# Altium footprint library Tranceivers.PcbLib: 7 footprints
Each footprint in its own frame and in the unit in brackets; x right, y up, seen from the top. Pads: shape width x height; smd on the part's side, far side on the other; paste and mask are expansions set on the pad; w line width, h text height; cw(c..) or ccw(c..) is an arc to the next point about the centre after c.
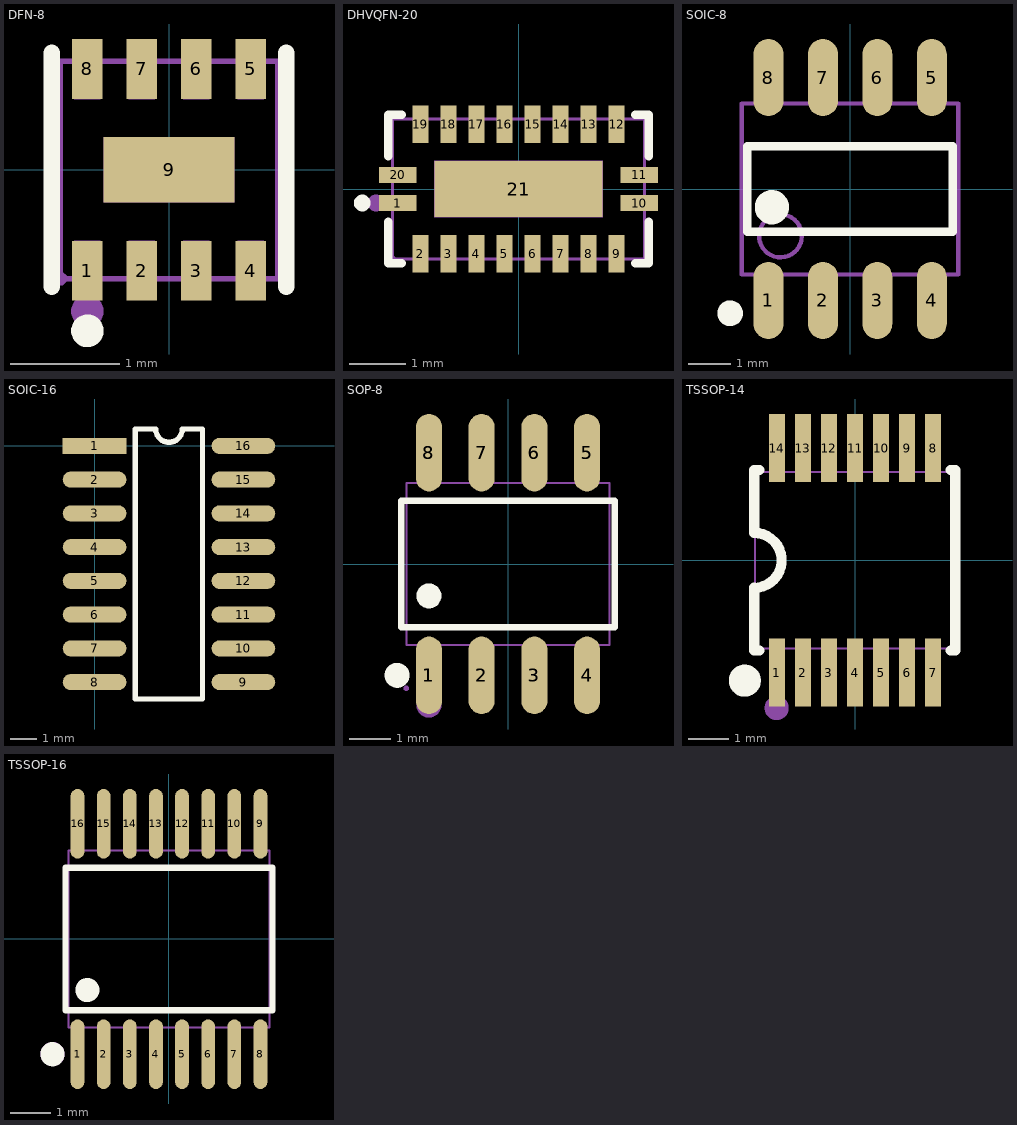
[diagram p0: the footprints below, top view; thin cyan lines are the x and y axes]

## DFN-8 [mm]
pads (9):
  rect 0.28x0.55 smd: 1(-0.75,-0.928) 2(-0.25,-0.928) 3(0.25,-0.928) 4(0.75,-0.928) 5(0.75,0.928) 6(0.25,0.928) 7(-0.25,0.928) 8(-0.75,0.928)
  rect 1.2x0.6 smd: 9(0,0)
Top Overlay:
  circle w0.15: c-0.75,-1.48 r0.075
  lines w0.152: -1.076,-1.076 -1.076,1.076 ; 1.076,-1.076 1.076,1.076
Mechanical 6:
  circle w0.15: c-0.75,-1.3 r0.075
Mechanical 15:
  region: -0.94,-1 -0.941,-0.976 -0.976,-0.941 -1.024,-0.941 -1.059,-0.976 -1.06,-1 -1.059,-1.024 -1.024,-1.059 -0.976,-1.059 -0.941,-1.024
  region: -0.6,0.3 0.6,0.3 0.6,-0.3 -0.6,-0.3
  region: -0.87,-0.65 -0.63,-0.65 -0.63,-1 -0.87,-1
  region: -0.37,-0.65 -0.13,-0.65 -0.13,-1 -0.37,-1
  region: 0.13,-0.65 0.37,-0.65 0.37,-1 0.13,-1
  region: 0.63,-0.65 0.87,-0.65 0.87,-1 0.63,-1
  region: 0.63,1 0.87,1 0.87,0.65 0.63,0.65
  region: 0.13,1 0.37,1 0.37,0.65 0.13,0.65
  region: -0.37,1 -0.13,1 -0.13,0.65 -0.37,0.65
  region: -0.87,1 -0.63,1 -0.63,0.65 -0.87,0.65
  lines w0.051: -1,-1 -1,1 1,1 1,-1 -1,-1
3D body "DFN8_2x2.STEP": height 0.75, standoff 0, extent -1,-1.005 1,1.005

## DHVQFN-20 [mm]
pads (21):
  rect 0.665x0.28 smd paste-100 mask+0.051: 1(-2.157,-0.25) 10(2.157,-0.25) 11(2.157,0.25) 20(-2.157,0.25)
  rect 0.28x0.665 smd paste-100 mask+0.051: 2(-1.75,-1.157) 3(-1.25,-1.157) 4(-0.75,-1.157) 5(-0.25,-1.157) 6(0.25,-1.157) 7(0.75,-1.157) 8(1.25,-1.157) 9(1.75,-1.157) 12(1.75,1.157) 13(1.25,1.157) 14(0.75,1.157) 15(0.25,1.157) 16(-0.25,1.157) 17(-0.75,1.157) 18(-1.25,1.157) 19(-1.75,1.157)
  rect 3x1 smd paste-100 mask+0.051: 21(0,0)
Top Overlay:
  circle w0.15: c-2.79,-0.25 r0.075
  lines w0.152: -2.326,-0.58 -2.326,-1.326 -2.08,-1.326 ; -2.326,0.58 -2.326,1.326 -2.08,1.326 ; 2.08,-1.326 2.326,-1.326 2.326,-0.58 ; 2.08,1.326 2.326,1.326 2.326,0.58
Top Paste:
  region: -1.2,-0.4 -1.2,0.4 1.2,0.4 1.2,-0.4
  region: -0.89,-0.825 -0.89,-1.49 -0.61,-1.49 -0.61,-0.825
  region: -0.39,-0.825 -0.39,-1.49 -0.11,-1.49 -0.11,-0.825
  region: -1.11,-1.49 -1.11,-0.825 -1.39,-0.825 -1.39,-1.49
  region: 0.11,-0.825 0.11,-1.49 0.39,-1.49 0.39,-0.825
  region: 0.61,-0.825 0.61,-1.49 0.89,-1.49 0.89,-0.825
  region: 1.11,-0.825 1.11,-1.49 1.39,-1.49 1.39,-0.825
  region: -1.61,-1.49 -1.61,-0.825 -1.89,-0.825 -1.89,-1.49
  region: 1.61,-0.825 1.61,-1.49 1.89,-1.49 1.89,-0.825
  region: 1.825,-0.11 1.825,-0.39 2.49,-0.39 2.49,-0.11
  region: -2.49,-0.11 -2.49,-0.39 -1.825,-0.39 -1.825,-0.11
  region: 1.825,0.39 1.825,0.11 2.49,0.11 2.49,0.39
  region: -2.49,0.39 -2.49,0.11 -1.825,0.11 -1.825,0.39
  region: -0.61,0.825 -0.61,1.49 -0.89,1.49 -0.89,0.825
  region: -1.11,0.825 -1.11,1.49 -1.39,1.49 -1.39,0.825
  region: -1.61,0.825 -1.61,1.49 -1.89,1.49 -1.89,0.825
  region: -0.39,1.49 -0.39,0.825 -0.11,0.825 -0.11,1.49
  region: 0.61,1.49 0.61,0.825 0.89,0.825 0.89,1.49
  region: 1.11,1.49 1.11,0.825 1.39,0.825 1.39,1.49
  region: 0.11,1.49 0.11,0.825 0.39,0.825 0.39,1.49
  region: 1.61,1.49 1.61,0.825 1.89,0.825 1.89,1.49
Mechanical 6:
  circle w0.15: c-2.55,-0.25 r0.075
Mechanical 15:
  region: -1.5,-0.5 -1.5,0.5 1.5,0.5 1.5,-0.5
  region: -1.85,-0.37 -1.85,-0.13 -2.25,-0.13 -2.25,-0.37
  region: -1.85,0.13 -1.85,0.37 -2.25,0.37 -2.25,0.13
  region: -1.87,1.25 -1.87,0.85 -1.63,0.85 -1.63,1.25
  region: -1.37,1.25 -1.37,0.85 -1.13,0.85 -1.13,1.25
  region: -0.87,1.25 -0.87,0.85 -0.63,0.85 -0.63,1.25
  region: -0.37,1.25 -0.37,0.85 -0.13,0.85 -0.13,1.25
  region: 0.13,1.25 0.13,0.85 0.37,0.85 0.37,1.25
  region: 0.63,1.25 0.63,0.85 0.87,0.85 0.87,1.25
  region: 1.13,1.25 1.13,0.85 1.37,0.85 1.37,1.25
  region: 1.63,1.25 1.63,0.85 1.87,0.85 1.87,1.25
  region: 1.85,0.13 1.85,0.37 2.25,0.37 2.25,0.13
  region: 1.85,-0.37 1.85,-0.13 2.25,-0.13 2.25,-0.37
  region: 1.63,-1.25 1.63,-0.85 1.87,-0.85 1.87,-1.25
  region: 1.13,-1.25 1.13,-0.85 1.37,-0.85 1.37,-1.25
  region: 0.63,-1.25 0.63,-0.85 0.87,-0.85 0.87,-1.25
  region: 0.13,-1.25 0.13,-0.85 0.37,-0.85 0.37,-1.25
  region: -0.37,-1.25 -0.37,-0.85 -0.13,-0.85 -0.13,-1.25
  region: -0.87,-1.25 -0.87,-0.85 -0.63,-0.85 -0.63,-1.25
  region: -1.37,-1.25 -1.37,-0.85 -1.13,-0.85 -1.13,-1.25
  region: -1.87,-1.25 -1.87,-0.85 -1.63,-0.85 -1.63,-1.25
  region: -2.19,-1.25 -2.19,-1.225 -2.225,-1.191 -2.274,-1.191 -2.309,-1.225 -2.31,-1.25 -2.309,-1.274 -2.274,-1.309 -2.225,-1.309 -2.19,-1.274 -2.19,-1.25
  lines w0.051: -2.25,-1.25 2.25,-1.25 2.25,1.25 -2.25,1.25 -2.25,-1.25
3D body "C3754948_DHVQFN-20_L4.5-W2.5-P0.50-BL-EP.step": height 0.9, standoff -0.02, extent -2.26,-1.26 2.26,1.26

## SOIC-8 [mm]
pads (8):
  oval 0.7x1.8 smd: 1(-1.905,-2.6) 2(-0.635,-2.6) 3(0.635,-2.6) 4(1.905,-2.6) 5(1.905,2.6) 6(0.635,2.6) 7(-0.635,2.6) 8(-1.905,2.6)
Top Overlay:
  circle w0.3: c-2.8,-2.9 r0.15
  circle w0.4: c-1.825,-0.425 r0.2
  lines w0.2: -2.4,-1 2.4,-1 2.4,1 -2.4,1 -2.4,-1
Mechanical 13:
  circle w0.1: c-1.625,-1.095 r0.5
  lines w0.1: -2.525,-1.995 2.525,-1.995 2.525,1.995 -2.525,1.995 -2.525,-1.995
3D body "SO-8N.STEP": height 1.62, standoff 0, extent -2.46,-3 2.46,3

## SOIC-16 [mm]
pads (16):
  rect 2.4x0.6 smd: 1(0,0)
  oval 2.4x0.6 smd: 2(0,-1.27) 3(0,-2.54) 4(0,-3.81) 5(0,-5.08) 6(0,-6.35) 7(0,-7.62) 8(0,-8.89) 9(5.6,-8.89) 10(5.6,-7.62) 11(5.6,-6.35) 12(5.6,-5.08) 13(5.6,-3.81) 14(5.6,-2.54) 15(5.6,-1.27) 16(5.6,0)
Top Overlay:
  lines w0.2: 2.286,0.635 1.524,0.635 1.524,-9.525 4.064,-9.525 4.064,0.635 3.302,0.635 ; 2.3,0.635 ccw(c2.8,0.635) 3.3,0.635
3D body "SOIC16.STEP": height 1.5, standoff 0, extent -0.156,-9.395 5.744,0.505

## SOP-8 [mm]
pads (16):
  oval 0.63x1.865 smd: 1(-1.905,-2.682) 2(-0.635,-2.682) 3(0.635,-2.682) 4(1.905,-2.682) 5(1.905,2.682) 6(0.635,2.682) 7(-0.635,2.682) 8(-1.905,2.682)
  oval 0.63x1.865 on Top Solder: 1(-1.905,-2.682) 2(-0.635,-2.682) 3(0.635,-2.682) 4(1.905,-2.682) 5(1.905,2.682) 6(0.635,2.682) 7(-0.635,2.682) 8(-1.905,2.682)
Top Overlay:
  circle w0.3: c-2.672,-2.682 r0.15
  circle w0.3: c-1.905,-0.769 r0.15
  lines w0.152: -2.576,-1.521 2.576,-1.521 2.576,1.521 -2.576,1.521 -2.576,-1.521
Mechanical 6:
  circle w0.3: c-1.905,-3.4 r0.15
Mechanical 15:
  region: -2.115,-3 -2.115,-2.165 -1.695,-2.165 -1.695,-3
  region: -2.115,-2.175 -2.115,-1.94 -1.695,-1.94 -1.695,-2.175
  region: -0.845,-3 -0.845,-2.165 -0.425,-2.165 -0.425,-3
  region: -0.845,-2.175 -0.845,-1.94 -0.425,-1.94 -0.425,-2.175
  region: 0.425,-3 0.425,-2.165 0.845,-2.165 0.845,-3
  region: 0.425,-2.175 0.425,-1.94 0.845,-1.94 0.845,-2.175
  region: 1.695,-3 1.695,-2.165 2.115,-2.165 2.115,-3
  region: 1.695,-2.175 1.695,-1.94 2.115,-1.94 2.115,-2.175
  region: -2.115,2.165 -2.115,3 -1.695,3 -1.695,2.165
  region: -2.115,1.94 -2.115,2.175 -1.695,2.175 -1.695,1.94
  region: -0.845,2.165 -0.845,3 -0.425,3 -0.425,2.165
  region: -0.845,1.94 -0.845,2.175 -0.425,2.175 -0.425,1.94
  region: 0.425,2.165 0.425,3 0.845,3 0.845,2.165
  region: 0.425,1.94 0.425,2.175 0.845,2.175 0.845,1.94
  region: 1.695,2.165 1.695,3 2.115,3 2.115,2.165
  region: 1.695,1.94 1.695,2.175 2.115,2.175 2.115,1.94
  region: -2.39,-3 -2.39,-2.975 -2.425,-2.94 -2.475,-2.94 -2.51,-2.975 -2.51,-3 -2.51,-3.025 -2.475,-3.06 -2.425,-3.06 -2.39,-3.025
  lines w0.051: -2.45,-1.95 2.45,-1.95 2.45,1.95 -2.45,1.95 -2.45,-1.95
3D body "SOP-8.STEP": height 1.87, standoff 0, extent -2.5,-3.11 2.5,3.11

## TSSOP-14 [mm]
pads (14):
  rect 0.4x1.7 smd: 1(-1.95,-2.8) 2(-1.3,-2.8) 3(-0.65,-2.8) 4(0,-2.8) 5(0.65,-2.8) 6(1.3,-2.8) 7(1.95,-2.8) 8(1.95,2.8) 9(1.3,2.8) 10(0.65,2.8) 11(0,2.8) 12(-0.65,2.8) 13(-1.3,2.8) 14(-1.95,2.8)
Top Overlay:
  circle w0.4: c-2.75,-3 r0.2
  lines w0.254: -2.515,-2.25 -2.515,-1.6 -2.515,-0.686 ccw(c-2.515,0) -2.515,0.686 -2.515,1.6 -2.515,2.25 ; -2.5,-2.25 -2.384,-2.25 ; -2.5,2.25 -2.384,2.25 ; 2.384,-2.25 2.5,-2.25 2.5,2.25 2.384,2.25
Mechanical 6:
  circle w0.3: c-1.956,-3.683 r0.15
Mechanical 15:
  drawing of 33 lines, arcs and shapes, not listed
3D body "TSSOP-14.stp": height 1.11, standoff 0.01, extent -2.225,-3.189 2.225,3.241

## TSSOP-16 [mm]
pads (16):
  oval 0.343x1.731 smd: 1(-2.275,-2.866) 2(-1.625,-2.866) 3(-0.975,-2.866) 4(-0.325,-2.866) 5(0.325,-2.866) 6(0.975,-2.866) 7(1.625,-2.866) 8(2.275,-2.866) 9(2.275,2.866) 10(1.625,2.866) 11(0.975,2.866) 12(0.325,2.866) 13(-0.325,2.866) 14(-0.975,2.866) 15(-1.625,2.866) 16(-2.275,2.866)
Top Overlay:
  circle w0.3: c-2.899,-2.866 r0.15
  circle w0.3: c-2.032,-1.27 r0.15
  lines w0.152: -2.576,-1.771 2.576,-1.771 2.576,1.772 -2.576,1.772 -2.576,-1.771
Mechanical 6:
  circle w0.3: c-2.897,-2.863 r0.15
Mechanical 15:
  drawing of 36 lines, arcs and shapes, not listed
3D body "TSSOP-16.stp": height 1.11, standoff 0.01, extent -2.524,-3.215 2.574,3.215